# Altium schematic symbol library Connectors.SchLib: 3 symbols
Pins are listed as number, name and electrical type; pins without a type are passive.

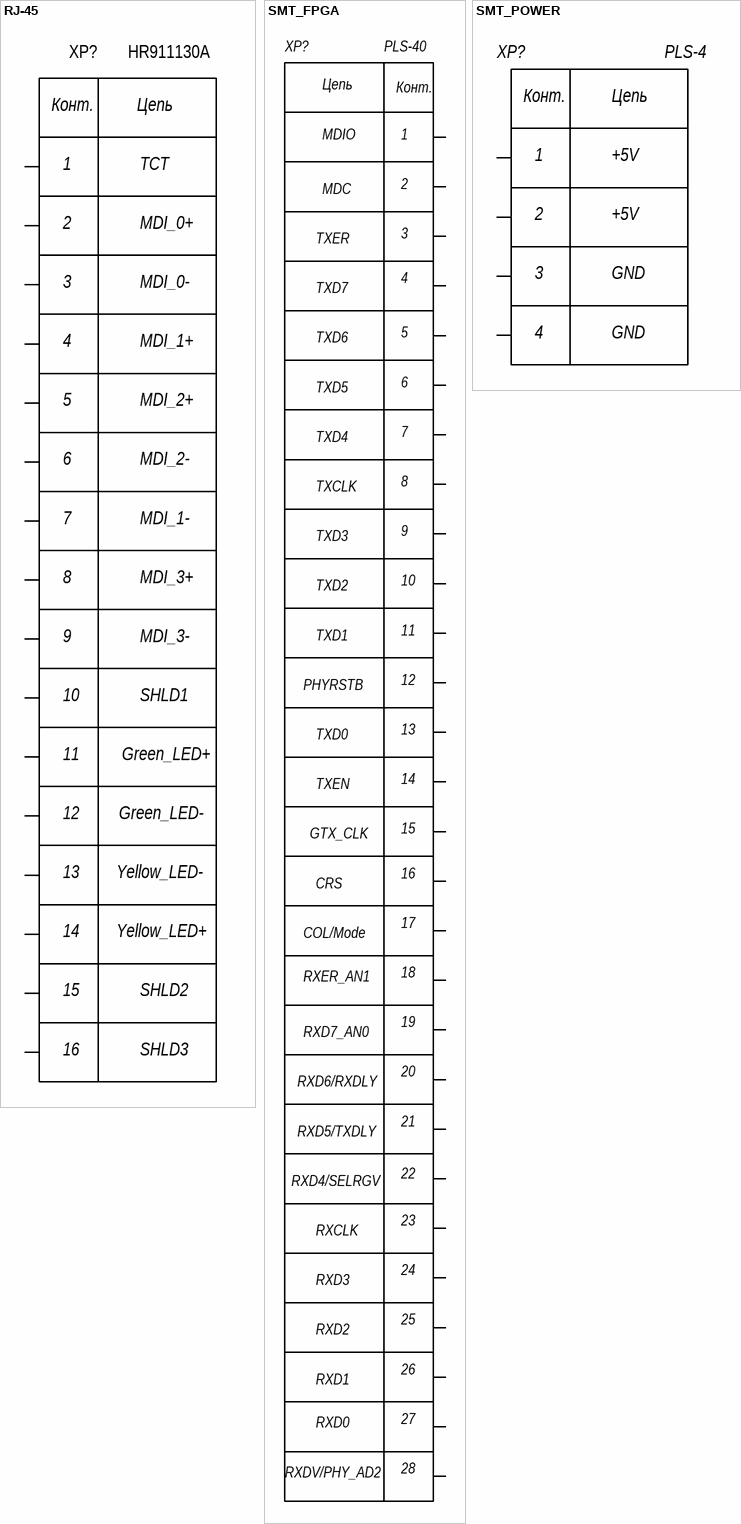
[diagram p0: symbols RJ-45 to SMT_POWER]

## RJ-45
designator XP?, comment HR911130A
Разъём RJ45 с встроенными трансформаторами и индикацией, 10/100Base-T Ethernet (HR911130A)
footprint HR911130A
pins: 1, 2, 3, 4, 5, 6, 7, 8, 9, 10, 11, 12, 13, 14, 15, 16
text: Конт.; Цепь; TCT; MDI_0+; MDI_0-; MDI_1+; MDI_2+; MDI_2-; MDI_1-; MDI_3+; MDI_3-; SHLD1; Green_LED+; Green_LED-; Yellow_LED-; Yellow_LED+; SHLD2; SHLD3

## SMT_FPGA
designator XP?, comment PLS-40
Служит для подключения разрабатываемой платы
footprint PBD-28
pins: 1, 2, 3, 4, 5, 6, 7, 8, 9, 10, 11, 12, 13, 14, 15, 16, 17, 18, 19, 20, 21, 22, 23, 24, 25, 26, 27, 28
text: Конт.; Цепь; MDIO; MDC; TXER; TXD7; TXD6; TXD5; TXD4; TXCLK; TXD3; TXD2; TXD1; PHYRSTB; TXD0; TXEN; GTX_CLK; CRS; COL/Mode; RXER_AN1; RXD7_AN0; RXD6/RXDLY; RXD5/TXDLY; RXD4/SELRGV; RXCLK; RXD3; RXD2; RXD1; RXD0; RXDV/PHY_AD2

## SMT_POWER
designator XP?, comment PLS-4
SMT-разъём для связи платы ПП с периферийными устройствами
footprint PLS-4 (Pins 1x4)
pins: 1, 2, 3, 4
text: Конт.; Цепь; +5V; GND